# Altium footprint library BGA.PcbLib: 13 footprints
Each footprint in its own frame and in the unit in brackets; x right, y up, seen from the top. Pads: shape width x height; smd on the part's side, far side on the other; paste and mask are expansions set on the pad; w line width, h text height; cw(c..) or ccw(c..) is an arc to the next point about the centre after c.
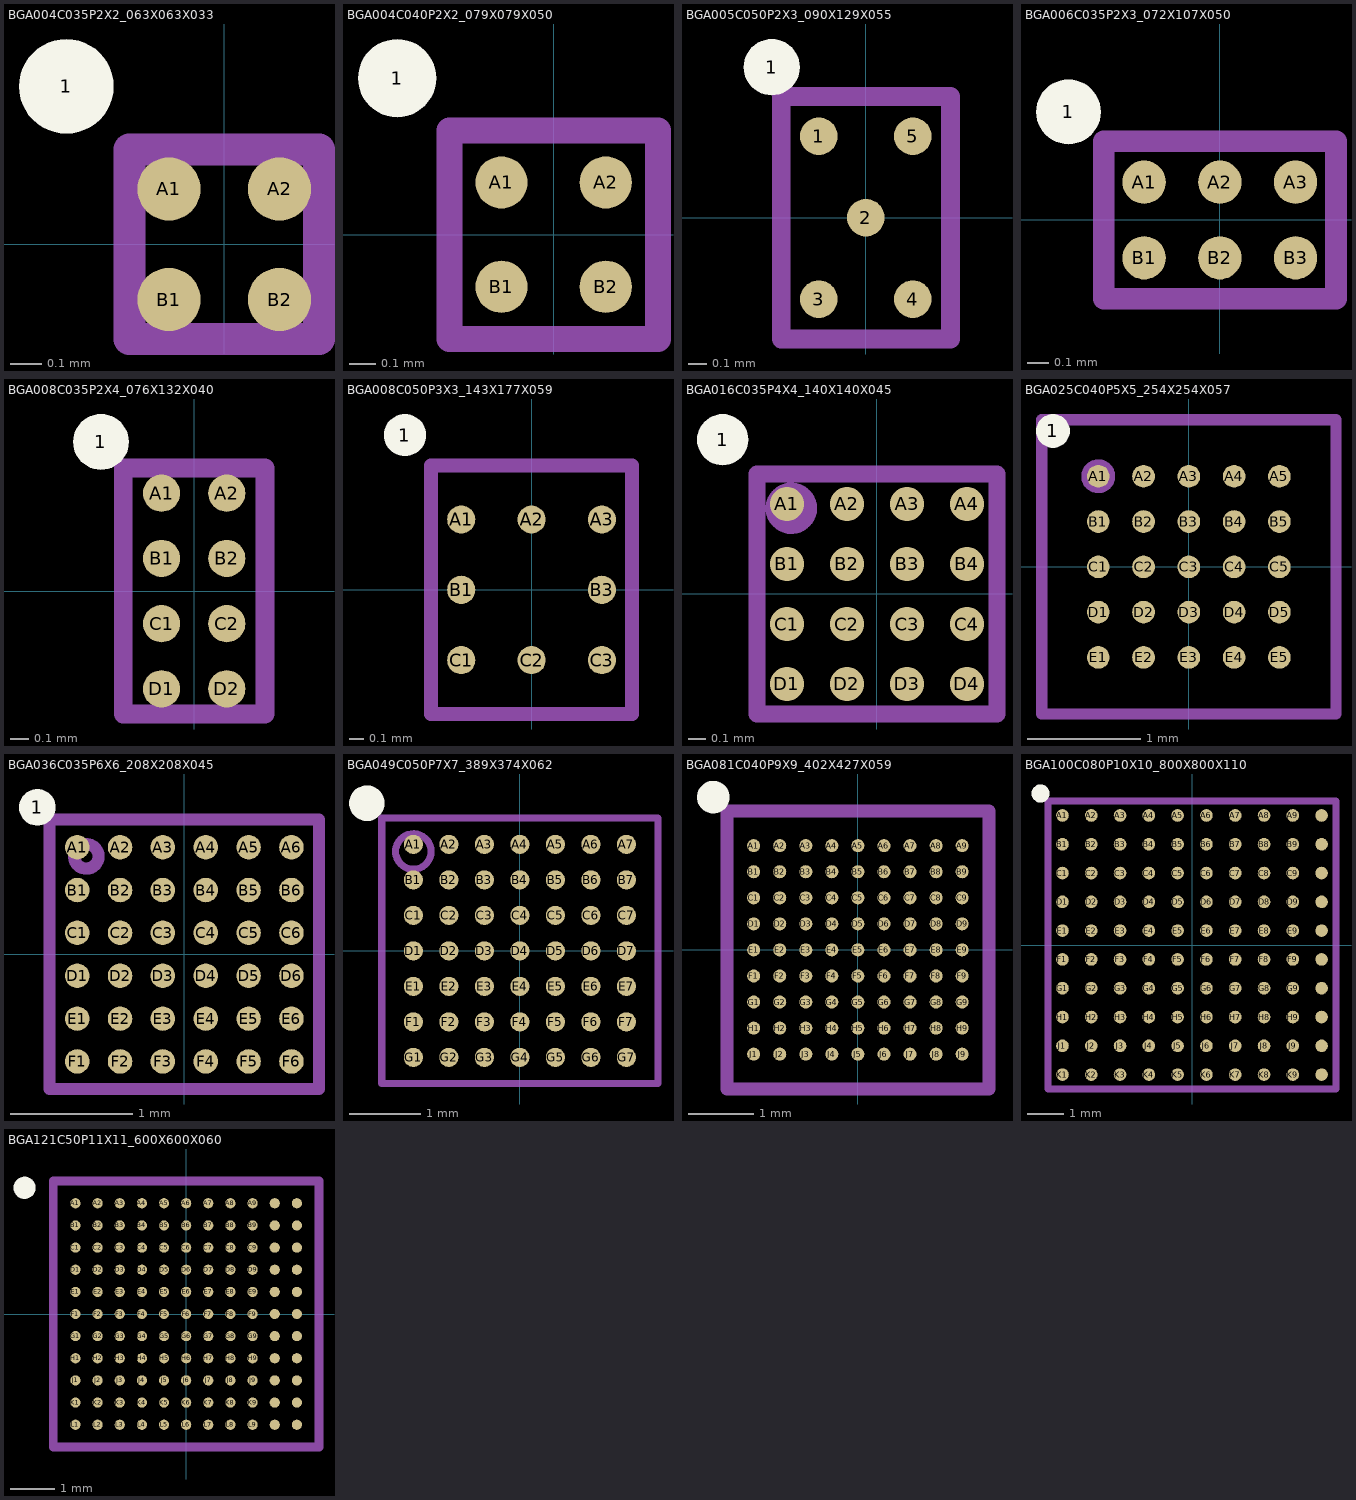
[diagram p0: the footprints below, top view; thin cyan lines are the x and y axes]

## BGA004C035P2X2_063X063X033 [mm] "BGA, 4-Leads, Body 0.63x0.63mmx0.33mm, Pitch 0.35mm TI Package YCK und YCJ"
height 0.5
pads (5):
  round 0.3 on Top Overlay: 1(-0.5,0.5)
  round 0.2 smd paste-2539.97: A1(-0.175,0.175) A2(0.175,0.175) B1(-0.175,-0.175) B2(0.175,-0.175)
Top Paste:
  region: 0.075,-0.225 0.075,-0.125 0.075,-0.115 0.083,-0.097 0.097,-0.083 0.115,-0.075 0.125,-0.075 0.225,-0.075 0.235,-0.075 0.253,-0.083 0.267,-0.097 0.275,-0.115 0.275,-0.125 0.275,-0.225 0.275,-0.235 0.267,-0.253 0.253,-0.267 0.235,-0.275 0.225,-0.275 0.125,-0.275 0.115,-0.275 0.097,-0.267 0.083,-0.253 0.075,-0.235
  region: -0.275,-0.225 -0.275,-0.125 -0.275,-0.115 -0.267,-0.097 -0.253,-0.083 -0.235,-0.075 -0.225,-0.075 -0.125,-0.075 -0.115,-0.075 -0.097,-0.083 -0.083,-0.097 -0.075,-0.115 -0.075,-0.125 -0.075,-0.225 -0.075,-0.235 -0.083,-0.253 -0.097,-0.267 -0.115,-0.275 -0.125,-0.275 -0.225,-0.275 -0.235,-0.275 -0.253,-0.267 -0.267,-0.253 -0.275,-0.235
  region: 0.075,0.125 0.075,0.225 0.075,0.235 0.083,0.253 0.097,0.267 0.115,0.275 0.125,0.275 0.225,0.275 0.235,0.275 0.253,0.267 0.267,0.253 0.275,0.235 0.275,0.225 0.275,0.125 0.275,0.115 0.267,0.097 0.253,0.083 0.235,0.075 0.225,0.075 0.125,0.075 0.115,0.075 0.097,0.083 0.083,0.097 0.075,0.115
  region: -0.275,0.125 -0.275,0.225 -0.275,0.235 -0.267,0.253 -0.253,0.267 -0.235,0.275 -0.225,0.275 -0.125,0.275 -0.115,0.275 -0.097,0.267 -0.083,0.253 -0.075,0.235 -0.075,0.225 -0.075,0.125 -0.075,0.115 -0.083,0.097 -0.097,0.083 -0.115,0.075 -0.125,0.075 -0.225,0.075 -0.235,0.075 -0.253,0.083 -0.267,0.097 -0.275,0.115
Top Assembly:
  lines w0.1: -0.3,-0.3 -0.3,0.3 0.3,0.3 0.3,-0.3 -0.3,-0.3
3D body "BGA004C035P2X2_063X063X033.step": height 0.33, standoff 0, extent -0.318,-0.318 0.318,0.318

## BGA004C040P2X2_079X079X050 [mm] "BGA, 6-Leads, Body 0.79x0.79mmx0.50mm, Pitch 0.40mm TI Package YFP"
height 0.5
pads (5):
  round 0.3 on Top Overlay: 1(-0.6,0.6)
  round 0.2 smd paste-2539.97: A1(-0.2,0.2) A2(0.2,0.2) B1(-0.2,-0.2) B2(0.2,-0.2)
Top Paste:
  region: -0.3,0.15 -0.3,0.25 -0.3,0.26 -0.292,0.278 -0.278,0.292 -0.26,0.3 -0.25,0.3 -0.15,0.3 -0.14,0.3 -0.122,0.292 -0.108,0.278 -0.1,0.26 -0.1,0.25 -0.1,0.15 -0.1,0.14 -0.108,0.122 -0.122,0.108 -0.14,0.1 -0.15,0.1 -0.25,0.1 -0.26,0.1 -0.278,0.108 -0.292,0.122 -0.3,0.14
  region: 0.1,0.15 0.1,0.25 0.1,0.26 0.108,0.278 0.122,0.292 0.14,0.3 0.15,0.3 0.25,0.3 0.26,0.3 0.278,0.292 0.292,0.278 0.3,0.26 0.3,0.25 0.3,0.15 0.3,0.14 0.292,0.122 0.278,0.108 0.26,0.1 0.25,0.1 0.15,0.1 0.14,0.1 0.122,0.108 0.108,0.122 0.1,0.14
  region: -0.3,-0.25 -0.3,-0.15 -0.3,-0.14 -0.292,-0.122 -0.278,-0.108 -0.26,-0.1 -0.25,-0.1 -0.15,-0.1 -0.14,-0.1 -0.122,-0.108 -0.108,-0.122 -0.1,-0.14 -0.1,-0.15 -0.1,-0.25 -0.1,-0.26 -0.108,-0.278 -0.122,-0.292 -0.14,-0.3 -0.15,-0.3 -0.25,-0.3 -0.26,-0.3 -0.278,-0.292 -0.292,-0.278 -0.3,-0.26
  region: 0.1,-0.25 0.1,-0.15 0.1,-0.14 0.108,-0.122 0.122,-0.108 0.14,-0.1 0.15,-0.1 0.25,-0.1 0.26,-0.1 0.278,-0.108 0.292,-0.122 0.3,-0.14 0.3,-0.15 0.3,-0.25 0.3,-0.26 0.292,-0.278 0.278,-0.292 0.26,-0.3 0.25,-0.3 0.15,-0.3 0.14,-0.3 0.122,-0.292 0.108,-0.278 0.1,-0.26
Top Assembly:
  lines w0.1: -0.4,-0.4 0.4,-0.4 0.4,0.4 -0.4,0.4 -0.4,-0.4
3D body "BGA004C040P2X2_079X079X050.step": height 0.5, standoff 0, extent -0.395,-0.395 0.395,0.395

## BGA005C050P2X3_090X129X055 [mm] "BGA, 5-Leads, Body 0.90x1.29mmx0.55mm, Pitch 0.50mm"
height 0.55
pads (6):
  round 0.3 on Top Overlay: 1(-0.5,0.8)
  round 0.2 smd paste-2539.97: 1(-0.25,0.433) 2(0,0) 3(-0.25,-0.433) 4(0.25,-0.433) 5(0.25,0.433)
Top Paste:
  region: 0.15,-0.483 0.15,-0.383 0.15,-0.373 0.158,-0.355 0.172,-0.341 0.19,-0.333 0.2,-0.333 0.3,-0.333 0.31,-0.333 0.328,-0.341 0.342,-0.355 0.35,-0.373 0.35,-0.383 0.35,-0.483 0.35,-0.493 0.342,-0.511 0.328,-0.525 0.31,-0.533 0.3,-0.533 0.2,-0.533 0.19,-0.533 0.172,-0.525 0.158,-0.511 0.15,-0.493
  region: -0.35,-0.483 -0.35,-0.383 -0.35,-0.373 -0.342,-0.355 -0.328,-0.341 -0.31,-0.333 -0.3,-0.333 -0.2,-0.333 -0.19,-0.333 -0.172,-0.341 -0.158,-0.355 -0.15,-0.373 -0.15,-0.383 -0.15,-0.483 -0.15,-0.493 -0.158,-0.511 -0.172,-0.525 -0.19,-0.533 -0.2,-0.533 -0.3,-0.533 -0.31,-0.533 -0.328,-0.525 -0.342,-0.511 -0.35,-0.493
  region: -0.1,-0.05 -0.1,0.05 -0.1,0.06 -0.092,0.078 -0.078,0.092 -0.06,0.1 -0.05,0.1 0.05,0.1 0.06,0.1 0.078,0.092 0.092,0.078 0.1,0.06 0.1,0.05 0.1,-0.05 0.1,-0.06 0.092,-0.078 0.078,-0.092 0.06,-0.1 0.05,-0.1 -0.05,-0.1 -0.06,-0.1 -0.078,-0.092 -0.092,-0.078 -0.1,-0.06
  region: 0.15,0.383 0.15,0.483 0.15,0.493 0.158,0.511 0.172,0.525 0.19,0.533 0.2,0.533 0.3,0.533 0.31,0.533 0.328,0.525 0.342,0.511 0.35,0.493 0.35,0.483 0.35,0.383 0.35,0.373 0.342,0.355 0.328,0.341 0.31,0.333 0.3,0.333 0.2,0.333 0.19,0.333 0.172,0.341 0.158,0.355 0.15,0.373
  region: -0.35,0.383 -0.35,0.483 -0.35,0.493 -0.342,0.511 -0.328,0.525 -0.31,0.533 -0.3,0.533 -0.2,0.533 -0.19,0.533 -0.172,0.525 -0.158,0.511 -0.15,0.493 -0.15,0.483 -0.15,0.383 -0.15,0.373 -0.158,0.355 -0.172,0.341 -0.19,0.333 -0.2,0.333 -0.3,0.333 -0.31,0.333 -0.328,0.341 -0.342,0.355 -0.35,0.373
Top Assembly:
  lines w0.1: -0.45,-0.645 0.45,-0.645 0.45,0.645 -0.45,0.645 -0.45,-0.645
3D body "BGA005C050P2X3_090X129X055.step": height 0.56, standoff 0, extent -0.45,-0.645 0.45,0.645

## BGA006C035P2X3_072X107X050 [mm] "BGA, 6-Leads, Body 0.72x1.07mmx0.50mm, Pitch 0.35mm"
height 0.5
pads (7):
  round 0.3 on Top Overlay: 1(-0.7,0.5)
  round 0.2 smd paste-2539.97: A1(-0.35,0.175) A2(0,0.175) A3(0.35,0.175) B1(-0.35,-0.175) B2(0,-0.175) B3(0.35,-0.175)
Top Paste:
  drawing of 6 lines, arcs and shapes, not listed
Top Assembly:
  lines w0.1: -0.537,-0.363 0.537,-0.363 0.537,0.363 -0.537,0.363 -0.537,-0.363
3D body "BGA006C035P2X3_072X107X050.step": height 0.5, standoff 0, extent -0.539,-0.363 0.539,0.363

## BGA008C035P2X4_076X132X040 [mm] "BGA, 8-Leads, Body 0.76x1.32mmx0.40mm, Pitch 0.35mm"
height 0.4
pads (9):
  round 0.3 on Top Overlay: 1(-0.5,0.8)
  round 0.2 smd paste-2539.97: A1(-0.175,0.525) A2(0.175,0.525) B1(-0.175,0.175) B2(0.175,0.175) C1(-0.175,-0.175) C2(0.175,-0.175) D1(-0.175,-0.525) D2(0.175,-0.525)
Top Paste:
  drawing of 8 lines, arcs and shapes, not listed
Top Assembly:
  lines w0.1: -0.38,-0.66 0.38,-0.66 0.38,0.66 -0.38,0.66 -0.38,-0.66
3D body "BGA008C035P2X4_076X132X040.step": height 0.4, standoff 0, extent -0.38,-0.66 0.38,0.66

## BGA008C050P3X3_143X177X059 [mm] "BGA, 8-Leads, Body 1.43x1.77mmx0.59mm, Pitch 0.50mm"
height 0.59
pads (9):
  round 0.3 on Top Overlay: 1(-0.9,1.1)
  round 0.2 smd paste-2539.97: A1(-0.5,0.5) A2(0,0.5) A3(0.5,0.5) B1(-0.5,0) B3(0.5,0) C1(-0.5,-0.5) C2(0,-0.5) C3(0.5,-0.5)
Top Paste:
  drawing of 8 lines, arcs and shapes, not listed
Top Assembly:
  lines w0.1: -0.715,-0.883 -0.715,0.883 0.715,0.883 0.715,-0.883 -0.715,-0.883
3D body "BGA008C050P3X3_143X177X059.step": height 0.6, standoff 0, extent -0.715,-0.887 0.715,0.887

## BGA016C035P4X4_140X140X045 [mm] "BGA, 16-Leads, Body 1.409x1.409mmx0.45mm, Pitch 0.35mm"
height 0.59
pads (17):
  round 0.3 on Top Overlay: 1(-0.9,0.9)
  round 0.2 smd paste-2539.97: A1(-0.525,0.525) A2(-0.175,0.525) A3(0.175,0.525) A4(0.525,0.525) B1(-0.525,0.175) B2(-0.175,0.175) B3(0.175,0.175) B4(0.525,0.175) C1(-0.525,-0.175) C2(-0.175,-0.175) C3(0.175,-0.175) C4(0.525,-0.175) D1(-0.525,-0.525) D2(-0.175,-0.525) D3(0.175,-0.525) D4(0.525,-0.525)
Top Paste:
  drawing of 16 lines, arcs and shapes, not listed
Top Assembly:
  circle w0.1: c-0.5,0.5 r0.1
  lines w0.1: -0.7,-0.7 -0.7,0.7 0.7,0.7 0.7,-0.7 -0.7,-0.7
3D body "BGA016C035P4X4_140X140X045.step": height 0.45, standoff 0, extent -0.704,-0.704 0.704,0.704

## BGA025C040P5X5_254X254X057 [mm] "BGA, 25-Leads, Body 2.546x2.546mmx0.57mm, Pitch 0.40mm"
height 0.59
pads (26):
  round 0.3 on Top Overlay: 1(-1.2,1.2)
  round 0.2 smd paste-2539.97: A1(-0.8,0.8) A2(-0.4,0.8) A3(0,0.8) A4(0.4,0.8) A5(0.8,0.8) B1(-0.8,0.4) B2(-0.4,0.4) B3(0,0.4) B4(0.4,0.4) B5(0.8,0.4) C1(-0.8,0) C2(-0.4,0) C3(0,0) C4(0.4,0) C5(0.8,0) D1(-0.8,-0.4) D2(-0.4,-0.4) D3(0,-0.4) D4(0.4,-0.4) D5(0.8,-0.4) E1(-0.8,-0.8) E2(-0.4,-0.8) E3(0,-0.8) E4(0.4,-0.8) E5(0.8,-0.8)
Top Paste:
  drawing of 25 lines, arcs and shapes, not listed
Top Assembly:
  circle w0.1: c-0.8,0.8 r0.1
  lines w0.1: -1.3,-1.3 -1.3,1.3 1.3,1.3 1.3,-1.3 -1.3,-1.3
3D body "BGA025C040P5X5_254X254X057.step": height 0.58, standoff 0, extent -1.273,-1.273 1.273,1.273

## BGA036C035P6X6_208X208X045 [mm] "BGA, 36-Leads, Body 2.078x2.078mmx0.45mm, Pitch 0.35mm"
height 0.59
pads (37):
  round 0.3 on Top Overlay: 1(-1.2,1.2)
  round 0.2 smd paste-2539.97: A1(-0.875,0.875) A2(-0.525,0.875) A3(-0.175,0.875) A4(0.175,0.875) A5(0.525,0.875) A6(0.875,0.875) B1(-0.875,0.525) B2(-0.525,0.525) B3(-0.175,0.525) B4(0.175,0.525) B5(0.525,0.525) B6(0.875,0.525) C1(-0.875,0.175) C2(-0.525,0.175) C3(-0.175,0.175) C4(0.175,0.175) C5(0.525,0.175) C6(0.875,0.175) D1(-0.875,-0.175) D2(-0.525,-0.175) D3(-0.175,-0.175) D4(0.175,-0.175) D5(0.525,-0.175) D6(0.875,-0.175) E1(-0.875,-0.525) E2(-0.525,-0.525) E3(-0.175,-0.525) E4(0.175,-0.525) E5(0.525,-0.525) E6(0.875,-0.525) F1(-0.875,-0.875) F2(-0.525,-0.875) F3(-0.175,-0.875) F4(0.175,-0.875) F5(0.525,-0.875) F6(0.875,-0.875)
Top Paste:
  drawing of 36 lines, arcs and shapes, not listed
Top Assembly:
  circle w0.1: c-0.8,0.8 r0.1
  lines w0.1: -1.1,-1.1 -1.1,1.1 1.1,1.1 1.1,-1.1 -1.1,-1.1
3D body "BGA036C035P6X6_208X208X045.step": height 0.45, standoff 0, extent -1.039,-1.039 1.039,1.039

## BGA049C050P7X7_389X374X062 [mm] "BGA, 49-Leads, Body 3.89x3.74mmx0.62mm, Pitch 0.50mm"
height 0.62
pads (49):
  round 0.27 smd: A1(-1.5,1.5) A2(-1,1.5) A3(-0.5,1.5) A4(0,1.5) A5(0.5,1.5) A6(1,1.5) A7(1.5,1.5) B1(-1.5,1) B2(-1,1) B3(-0.5,1) B4(0,1) B5(0.5,1) B6(1,1) B7(1.5,1) C1(-1.5,0.5) C2(-1,0.5) C3(-0.5,0.5) C4(0,0.5) C5(0.5,0.5) C6(1,0.5) C7(1.5,0.5) D1(-1.5,0) D2(-1,0) D3(-0.5,0) D4(0,0) D5(0.5,0) D6(1,0) D7(1.5,0) E1(-1.5,-0.5) E2(-1,-0.5) E3(-0.5,-0.5) E4(0,-0.5) E5(0.5,-0.5) E6(1,-0.5) E7(1.5,-0.5) F1(-1.5,-1) F2(-1,-1) F3(-0.5,-1) F4(0,-1) F5(0.5,-1) F6(1,-1) F7(1.5,-1) G1(-1.5,-1.5) G2(-1,-1.5) G3(-0.5,-1.5) G4(0,-1.5) G5(0.5,-1.5) G6(1,-1.5) G7(1.5,-1.5)
Top Overlay:
  circle w0.25: c-2.155,2.08 r0.125
Top Assembly:
  circle w0.1: c-1.5,1.4 r0.25
  lines w0.1: -1.945,-1.87 1.945,-1.87 1.945,1.87 -1.945,1.87 -1.945,-1.87
3D body "BGA49C50P7X7_389X374X62.step": height 0.62, standoff 0, extent -1.945,-1.87 1.945,1.87

## BGA081C040P9X9_402X427X059 [mm] "BGA, 81-Leads, Body 4.02x4.27mmx0.59mm, Pitch 0.40mm"
height 0.59
pads (81):
  round 0.2 smd: A1(-1.6,1.6) A2(-1.2,1.6) A3(-0.8,1.6) A4(-0.4,1.6) A5(0,1.6) A6(0.4,1.6) A7(0.8,1.6) A8(1.2,1.6) A9(1.6,1.6) B1(-1.6,1.2) B2(-1.2,1.2) B3(-0.8,1.2) B4(-0.4,1.2) B5(0,1.2) B6(0.4,1.2) B7(0.8,1.2) B8(1.2,1.2) B9(1.6,1.2) C1(-1.6,0.8) C2(-1.2,0.8) C3(-0.8,0.8) C4(-0.4,0.8) C5(0,0.8) C6(0.4,0.8) C7(0.8,0.8) C8(1.2,0.8) C9(1.6,0.8) D1(-1.6,0.4) D2(-1.2,0.4) D3(-0.8,0.4) D4(-0.4,0.4) D5(0,0.4) D6(0.4,0.4) D7(0.8,0.4) D8(1.2,0.4) D9(1.6,0.4) E1(-1.6,0) E2(-1.2,0) E3(-0.8,0) E4(-0.4,0) E5(0,0) E6(0.4,0) E7(0.8,0) E8(1.2,0) E9(1.6,0) F1(-1.6,-0.4) F2(-1.2,-0.4) F3(-0.8,-0.4) F4(-0.4,-0.4) F5(0,-0.4) F6(0.4,-0.4) F7(0.8,-0.4) F8(1.2,-0.4) F9(1.6,-0.4) G1(-1.6,-0.8) G2(-1.2,-0.8) G3(-0.8,-0.8) G4(-0.4,-0.8) G5(0,-0.8) G6(0.4,-0.8) G7(0.8,-0.8) G8(1.2,-0.8) G9(1.6,-0.8) H1(-1.6,-1.2) H2(-1.2,-1.2) H3(-0.8,-1.2) H4(-0.4,-1.2) H5(0,-1.2) H6(0.4,-1.2) H7(0.8,-1.2) H8(1.2,-1.2) H9(1.6,-1.2) J1(-1.6,-1.6) J2(-1.2,-1.6) J3(-0.8,-1.6) J4(-0.4,-1.6) J5(0,-1.6) J6(0.4,-1.6) J7(0.8,-1.6) J8(1.2,-1.6) J9(1.6,-1.6)
Top Overlay:
  circle w0.25: c-2.22,2.345 r0.125
Top Assembly:
  lines w0.2: -2.01,-2.135 -2.01,2.135 2.01,2.135 2.01,-2.135 -2.01,-2.135
3D body "BGA081C040P9X9_402X427X59.step": height 0.59, standoff 0, extent -2.01,-2.135 2.01,2.135

## BGA100C080P10X10_800X800X110 [mm] "BGA, 100-Leads, Body 8.00x8.00mmx1.10mm, Pitch 0.80mm"
height 1.1
pads (100):
  round 0.35 smd: A1(-3.6,3.6) A2(-2.8,3.6) A3(-2,3.6) A4(-1.2,3.6) A5(-0.4,3.6) A6(0.4,3.6) A7(1.2,3.6) A8(2,3.6) A9(2.8,3.6) A10(3.6,3.6) B1(-3.6,2.8) B2(-2.8,2.8) B3(-2,2.8) B4(-1.2,2.8) B5(-0.4,2.8) B6(0.4,2.8) B7(1.2,2.8) B8(2,2.8) B9(2.8,2.8) B10(3.6,2.8) C1(-3.6,2) C2(-2.8,2) C3(-2,2) C4(-1.2,2) C5(-0.4,2) C6(0.4,2) C7(1.2,2) C8(2,2) C9(2.8,2) C10(3.6,2) D1(-3.6,1.2) D2(-2.8,1.2) D3(-2,1.2) D4(-1.2,1.2) D5(-0.4,1.2) D6(0.4,1.2) D7(1.2,1.2) D8(2,1.2) D9(2.8,1.2) D10(3.6,1.2) E1(-3.6,0.4) E2(-2.8,0.4) E3(-2,0.4) E4(-1.2,0.4) E5(-0.4,0.4) E6(0.4,0.4) E7(1.2,0.4) E8(2,0.4) E9(2.8,0.4) E10(3.6,0.4) F1(-3.6,-0.4) F2(-2.8,-0.4) F3(-2,-0.4) F4(-1.2,-0.4) F5(-0.4,-0.4) F6(0.4,-0.4) F7(1.2,-0.4) F8(2,-0.4) F9(2.8,-0.4) F10(3.6,-0.4) G1(-3.6,-1.2) G2(-2.8,-1.2) G3(-2,-1.2) G4(-1.2,-1.2) G5(-0.4,-1.2) G6(0.4,-1.2) G7(1.2,-1.2) G8(2,-1.2) G9(2.8,-1.2) G10(3.6,-1.2) H1(-3.6,-2) H2(-2.8,-2) H3(-2,-2) H4(-1.2,-2) H5(-0.4,-2) H6(0.4,-2) H7(1.2,-2) H8(2,-2) H9(2.8,-2) H10(3.6,-2) J1(-3.6,-2.8) J2(-2.8,-2.8) J3(-2,-2.8) J4(-1.2,-2.8) J5(-0.4,-2.8) J6(0.4,-2.8) J7(1.2,-2.8) J8(2,-2.8) J9(2.8,-2.8) J10(3.6,-2.8) K1(-3.6,-3.6) K2(-2.8,-3.6) K3(-2,-3.6) K4(-1.2,-3.6) K5(-0.4,-3.6) K6(0.4,-3.6) K7(1.2,-3.6) K8(2,-3.6) K9(2.8,-3.6) K10(3.6,-3.6)
Top Overlay:
  circle w0.25: c-4.21,4.21 r0.125
Top Assembly:
  lines w0.2: -4,-4 4,-4 4,4 -4,4 -4,-4
3D body "BGA100C080P10X10_800X800X110.step": height 1.1, standoff 0, extent -4,-4 4,4

## BGA121C50P11X11_600X600X060 [mm] "BGA, 121-Leads, Body 6.00x6.00mmx0.60mm, Pitch 0.50mm"
height 0.6
pads (121):
  round 0.23 smd: A1(-2.5,2.5) A2(-2,2.5) A3(-1.5,2.5) A4(-1,2.5) A5(-0.5,2.5) A6(0,2.5) A7(0.5,2.5) A8(1,2.5) A9(1.5,2.5) A10(2,2.5) A11(2.5,2.5) B1(-2.5,2) B2(-2,2) B3(-1.5,2) B4(-1,2) B5(-0.5,2) B6(0,2) B7(0.5,2) B8(1,2) B9(1.5,2) B10(2,2) B11(2.5,2) C1(-2.5,1.5) C2(-2,1.5) C3(-1.5,1.5) C4(-1,1.5) C5(-0.5,1.5) C6(0,1.5) C7(0.5,1.5) C8(1,1.5) C9(1.5,1.5) C10(2,1.5) C11(2.5,1.5) D1(-2.5,1) D2(-2,1) D3(-1.5,1) D4(-1,1) D5(-0.5,1) D6(0,1) D7(0.5,1) D8(1,1) D9(1.5,1) D10(2,1) D11(2.5,1) E1(-2.5,0.5) E2(-2,0.5) E3(-1.5,0.5) E4(-1,0.5) E5(-0.5,0.5) E6(0,0.5) E7(0.5,0.5) E8(1,0.5) E9(1.5,0.5) E10(2,0.5) E11(2.5,0.5) F1(-2.5,0) F2(-2,0) F3(-1.5,0) F4(-1,0) F5(-0.5,0) F6(0,0) F7(0.5,0) F8(1,0) F9(1.5,0) F10(2,0) F11(2.5,0) G1(-2.5,-0.5) G2(-2,-0.5) G3(-1.5,-0.5) G4(-1,-0.5) G5(-0.5,-0.5) G6(0,-0.5) G7(0.5,-0.5) G8(1,-0.5) G9(1.5,-0.5) G10(2,-0.5) G11(2.5,-0.5) H1(-2.5,-1) H2(-2,-1) H3(-1.5,-1) H4(-1,-1) H5(-0.5,-1) H6(0,-1) H7(0.5,-1) H8(1,-1) H9(1.5,-1) H10(2,-1) H11(2.5,-1) J1(-2.5,-1.5) J2(-2,-1.5) J3(-1.5,-1.5) J4(-1,-1.5) J5(-0.5,-1.5) J6(0,-1.5) J7(0.5,-1.5) J8(1,-1.5) J9(1.5,-1.5) J10(2,-1.5) J11(2.5,-1.5) K1(-2.5,-2) K2(-2,-2) K3(-1.5,-2) K4(-1,-2) K5(-0.5,-2) K6(0,-2) K7(0.5,-2) K8(1,-2) K9(1.5,-2) K10(2,-2) K11(2.5,-2) L1(-2.5,-2.5) L2(-2,-2.5) L3(-1.5,-2.5) L4(-1,-2.5) L5(-0.5,-2.5) L6(0,-2.5) L7(0.5,-2.5) L8(1,-2.5) L9(1.5,-2.5) L10(2,-2.5) L11(2.5,-2.5)
Top Overlay:
  circle w0.25: c-3.65,2.85 r0.125
Top Assembly:
  lines w0.2: -3,-3 3,-3 3,3 -3,3 -3,-3
3D body "BGA121C50P11X11_600X600X60.step": height 0.6, standoff 0, extent -3,-3 3,3